# Altium footprint library 三极管.PcbLib: 32 footprints (part 1 of 2)
Each footprint in its own frame and in the unit in brackets; x right, y up, seen from the top. Pads: shape width x height; smd on the part's side, far side on the other; paste and mask are expansions set on the pad; w line width, h text height; cw(c..) or ccw(c..) is an arc to the next point about the centre after c.
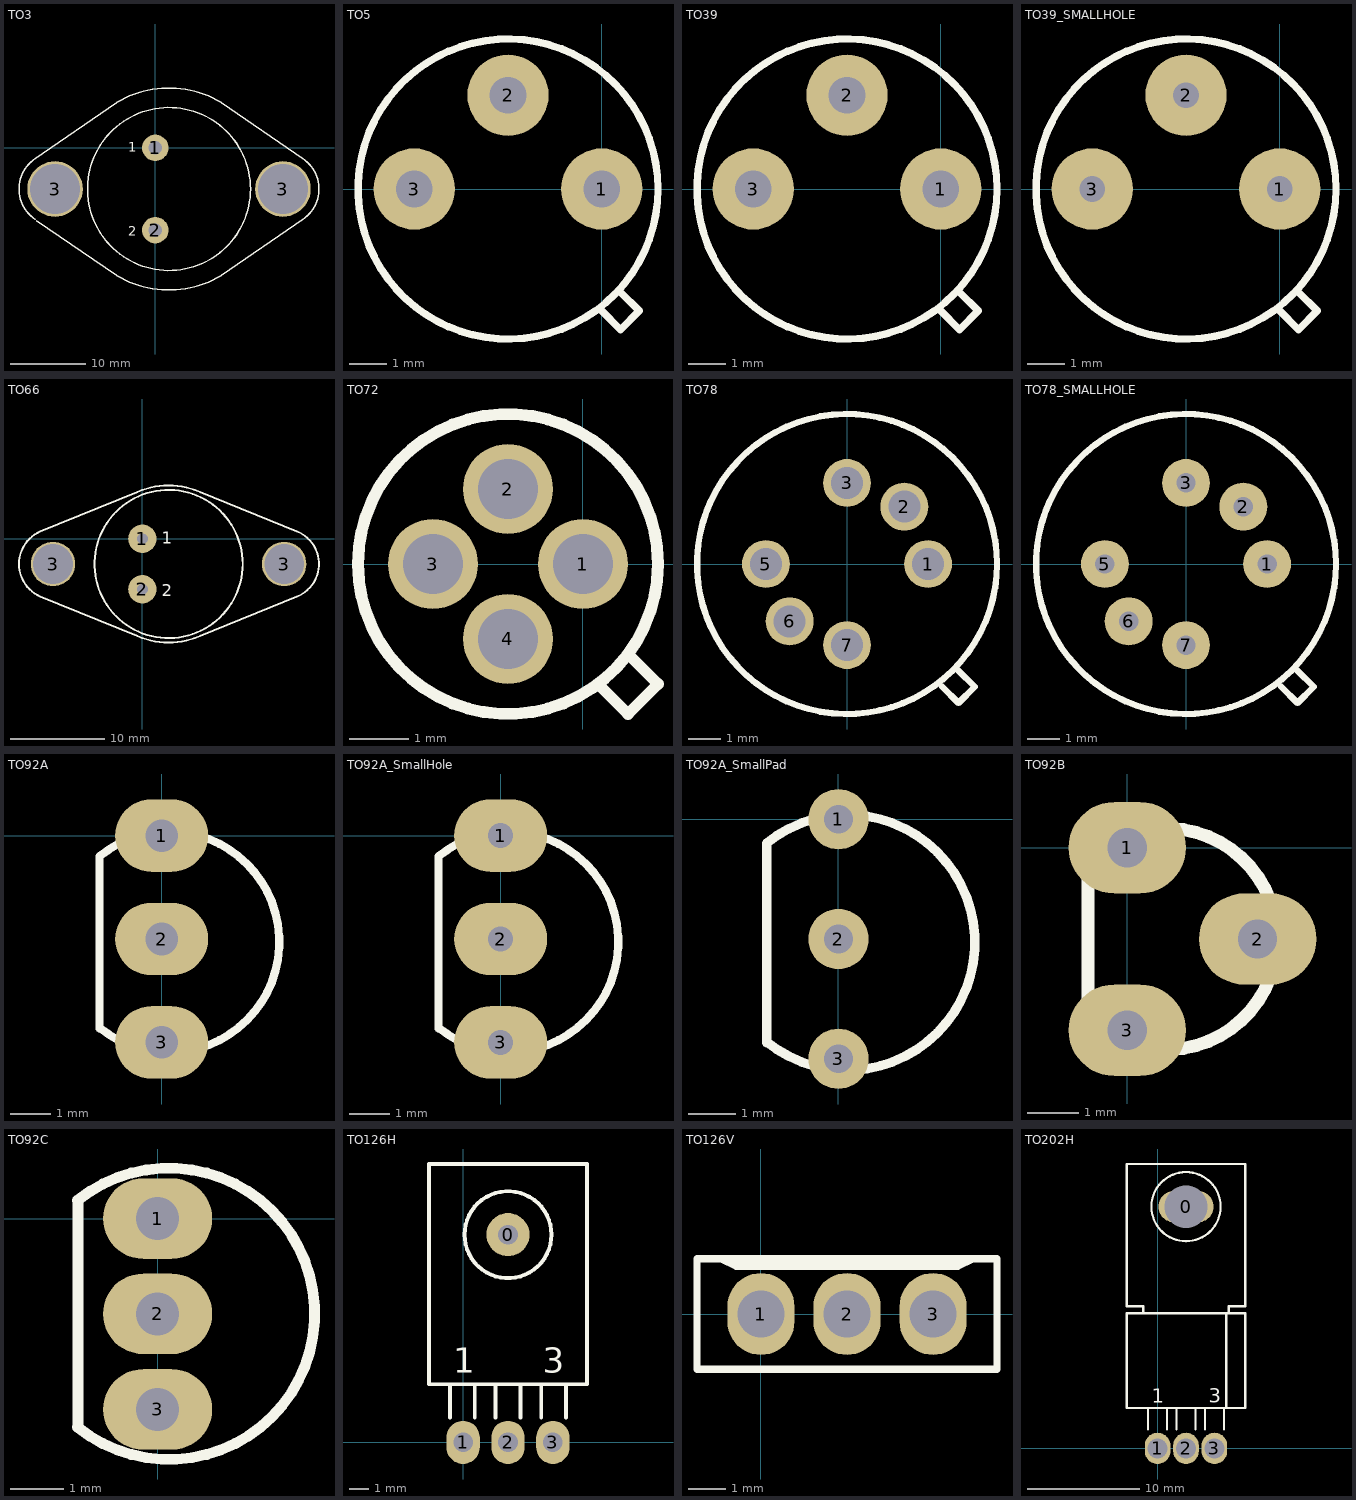
[diagram p0: the footprints below, top view; thin cyan lines are the x and y axes]

## TO3 [mil]
pads (4):
  round 137.79 hole 70: 1(0,0) 2(0,-430)
  round 290 hole 262: 3(-523.5,-215) 3(666.5,-215)
TopOverlay:
  circle w7.87: c71.5,-215 r425.69
  lines w7.87: -628.5,-56.67 -203.5,235 ; -627.34,-373.9 cw(c-520.17,-215) -627.34,-56.1 ; -620.17,-381.67 -203.5,-665 ; -200.18,-667.16 ccw(c71.5,-215) 343.18,-667.16 ; -200.18,237.16 cw(c71.5,-215) 343.18,237.16 ; 346.5,-665 771.5,-373.33 ; 346.5,235 771.5,-56.67 ; 770.34,-373.9 ccw(c663.17,-215) 770.34,-56.1
  text "1" at -140,-20 h50
  text "2" at -140,-460 h50

## TO5 [mm]
pads (3):
  round 2.2 hole 1: 1(0,0) 2(-2.54,2.54) 3(-5.08,0)
TopOverlay:
  circle w0.2: c-2.54,0 r4.064
  lines w0.2: 0,-3.302 0.508,-3.81 1.016,-3.302 0.508,-2.794

## TO39 [mm]
pads (3):
  round 2.2 hole 1: 1(0,0) 2(-2.54,2.54) 3(-5.08,0)
TopOverlay:
  circle w0.2: c-2.54,0 r4.064
  lines w0.2: 0,-3.302 0.508,-3.81 1.016,-3.302 0.508,-2.794

## TO39_SMALLHOLE [mm]
pads (3):
  round 2.2 hole 0.7: 1(0,0) 2(-2.54,2.54) 3(-5.08,0)
TopOverlay:
  circle w0.2: c-2.54,0 r4.064
  lines w0.2: 0,-3.302 0.508,-3.81 1.016,-3.302 0.508,-2.794

## TO66 [mil]
pads (4):
  round 118.11 hole 45: 1(0,0) 2(0,-210)
  round 185 hole 165: 3(-372,-105) 3(590,-105)
TopOverlay:
  circle w7.87: c109,-105 r308.33
  lines w7.87: -426,-240 -21,-405 ; -425.99,-239.75 cw(c-366,-105) -425.99,29.75 ; -426,30 -21,195 ; -18.64,-405.7 ccw(c109,-105) 236.64,-405.7 ; -18.64,195.7 cw(c109,-105) 236.64,195.7 ; 239,-405 644,-240 ; 239,195 644,30 ; 643.63,-240.21 ccw(c589,-105) 643.63,30.21
  text "1" at 80,-20 h50
  text "2" at 80,-240 h50

## TO72 [mil]
pads (4):
  round 60 hole 40: 1(0,0) 2(-50,50) 3(-100,0) 4(-50,-50)
TopOverlay:
  circle w7.87: c-50,0 r100
  lines w7.87: 10,-80 30,-100 50,-80 30,-60

## TO78 [mm]
pads (6):
  round 1.5 hole 1: 1(2.54,0) 2(1.796,1.796) 3(0,2.54) 5(-2.54,0) 6(-1.796,-1.796) 7(0,-2.54)
TopOverlay:
  circle w0.2: c0,0 r4.7
  lines w0.2: 2.984,-3.848 3.492,-4.356 4,-3.848 3.492,-3.34

## TO78_SMALLHOLE [mm]
pads (6):
  round 1.5 hole 0.61: 1(2.54,0) 2(1.796,1.796) 3(0,2.54) 5(-2.54,0) 7(0,-2.54)
  round 1.5 hole 0.61 paste+0: 6(-1.796,-1.796)
TopOverlay:
  circle w0.2: c0,0 r4.7
  lines w0.2: 2.984,-3.848 3.492,-4.356 4,-3.848 3.492,-3.34

## TO92A [mil]
pads (3):
  oval 90x70 hole 31.5: 1(0,0) 2(0,-100) 3(0,-200)
TopOverlay:
  lines w7.87: -60,-186.67 -60,-20 cw(c7.13,-102.89) -60,-185.79

## TO92A_SmallHole [mil]
pads (3):
  oval 90x70 hole 24.02: 1(0,0) 2(0,-100) 3(0,-200)
TopOverlay:
  lines w7.87: -60,-186.67 -60,-20 cw(c7.13,-102.89) -60,-185.79

## TO92A_SmallPad [mm]
pads (3):
  round 1.28 hole 0.61: 1(0,0) 2(0,-2.54) 3(0,-5.08)
TopOverlay:
  lines w0.2: -1.524,-4.741 -1.524,-0.508 cw(c0.181,-2.614) -1.524,-4.719

## TO92B [mil]
pads (3):
  oval 90x70 hole 30: 1(0,0) 2(100,-70) 3(0,-140)
TopOverlay:
  lines w10: -30,-130 ccw(c30,-70) -30,-10 -30,-28.02 -30,-130

## TO92C [mm]
pads (3):
  oval 2.032x1.5 hole 0.8: 1(0,0) 2(0,-1.77) 3(0,-3.548)
TopOverlay:
  lines w0.2: -1.493,-3.876 ccw(c0.212,-1.77) -1.493,0.336 ; -1.482,-3.887 -1.482,0.347

## TO126H [mm]
pads (4):
  round 2.2 hole 1: 0(2.286,10.583)
  oval 1.7x2.2 hole 1: 1(0,0) 2(2.286,0) 3(4.572,0)
TopOverlay:
  circle w0.2: c2.286,10.583 r2.214
  lines w0.2: -0.677,1.27 -0.677,2.963 ; 0.593,1.27 0.593,2.963 ; 1.651,1.27 1.651,2.963 ; 2.921,1.27 2.921,2.963 ; 3.979,1.27 3.979,2.963 ; 5.249,1.27 5.249,2.963 ; -0.677,2.963 6.308,2.963 6.308,14.182 -1.736,14.182 -1.736,2.963 -0.677,2.963
  text "1" at -0.508,3.556 h1.27
  text "3" at 4.064,3.556 h1.27

## TO126V [mm]
pads (3):
  oval 1.8x2.2 hole 1.27: 1(0,0) 2(2.307,0) 3(4.614,0)
TopOverlay:
  lines w0.2: -1.079,1.482 -0.656,1.282 5.27,1.282 5.694,1.482 ; -1.714,-1.482 -1.714,1.482 6.329,1.482 6.329,-1.482 -1.714,-1.482

## TO202H [mil]
pads (4):
  oval 195x110.24 hole 150: 0(100,850)
  oval 90x110.24 hole 70: 1(0,0) 2(100,0) 3(200,0)
TopOverlay:
  circle w7.87: c100,850 r121.66
  lines w7.87: -50,475 -50,500 -108.33,500 -108.33,1000 308.33,1000 308.33,500 250,500 250,475 ; -33.33,66.93 -33.33,141.67 ; 33.33,66.93 33.33,141.67 ; 66.67,66.93 66.67,141.67 ; 133.33,66.93 133.33,141.67 ; 166.67,66.93 166.67,141.67 ; 233.33,66.93 233.33,141.67 ; 241.67,141.67 241.67,475 ; -108.33,141.67 -108.33,475 308.33,475 308.33,141.67 -108.33,141.67
  text "1" at -20,160 h50
  text "3" at 180,160 h50